# Altium footprint library basic03_inductors.pcblib: 9 footprints
Each footprint in its own frame and in the unit in brackets; x right, y up, seen from the top. Pads: shape width x height; smd on the part's side, far side on the other; paste and mask are expansions set on the pad; w line width, h text height; cw(c..) or ccw(c..) is an arc to the next point about the centre after c.
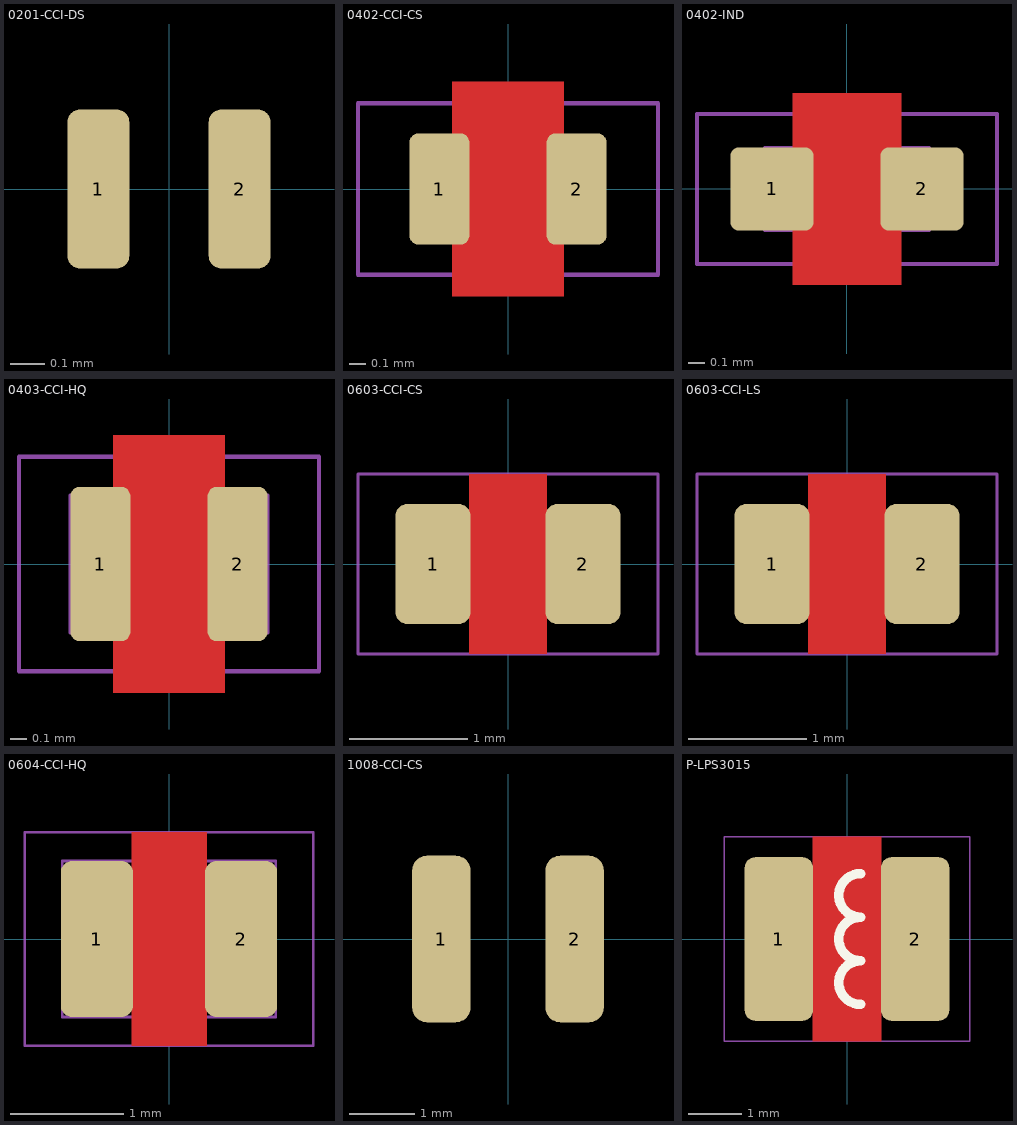
[diagram p0: the footprints below, top view; thin cyan lines are the x and y axes]

## 0201-CCI-DS [mil] "Coilcraft 0201DS"
pads (2):
  rrect40% 7x18 smd paste+0 mask+2: 1(-8,0) 2(8,0)

## 0402-CCI-CS [mil] "Coilcraft 0402CS"
pads (2):
  rrect30% 14x26 smd mask+2: 1(-16,0) 2(16,0)
Top Layer:
  pour cut-out: -13,25 13,25 13,-25 -13,-25
Top Solder:
  rectangle: -8,-20 8,20
  rectangle: -16,-15 16,15
Mechanical 15:
  lines w1: -35,-20 35,-20 35,20 -35,20 -35,-20
3D body: height 20.5, standoff 20, extent -15,-2.5 -10,2.5
3D body: height 20, standoff 10, extent -23,-13 23,13
3D body: height 19, standoff 0, extent -21,-11 -13,11
3D body: height 18, standoff 5, extent -20,-10 20,10
3D body: height 19, standoff 0, extent 13,-11 21,11

## 0402-IND [mil] "Inductor, 0402, General Multilayer"
pads (2):
  rrect20% 20x20 smd mask+2: 1(-18,0) 2(18,0)
Top Layer:
  pour cut-out: -13,23 13,23 13,-23 -13,-23
Top Solder:
  rectangle: -8,-18 8,18
  rectangle: -16,-12 16,12
Mechanical 15:
  lines w1: -36,-18 -36,18 36,18 36,-18 -36,-18
Mechanical 16:
  lines w1: -9.84,-9.84 -9.84,9.84 ; 9.84,-9.84 9.84,9.84 ; -19.68,-9.84 19.68,-9.84 19.68,9.84 -19.68,9.84 -19.68,-9.84
3D body: height 19.9, standoff 19.7, extent 0,-9 9,9
3D body: height 19.8, standoff 0.2, extent -19.68,-9.84 19.68,9.84
3D body: height 20, standoff 0, extent 10,-10 20,10
3D body: height 20, standoff 0, extent -20,-10 -10,10

## 0403-CCI-HQ [mil] "Coilcraft 0403HQ"
pads (2):
  rrect30% 14x36 smd paste+0 mask+2: 1(-16,0) 2(16,0)
Top Layer:
  pour cut-out: -13,30 13,30 13,-30 -13,-30
Top Solder:
  rectangle: -16,-20 16,20
  rectangle: -8,-25 8,25
Mechanical 15:
  lines w1: -35,-25 35,-25 35,25 -35,25 -35,-25
Mechanical 16:
  lines w1: -23,-16 -23,16 23,16 23,-16 -23,-16
3D body: height 28.1, standoff 27.9, extent -15,-2.5 -10,2.5
3D body: height 28, standoff 10, extent -23,-16 23,16
3D body: height 25, standoff 0, extent -21,-14 -13,14
3D body: height 24, standoff 5, extent -20,-13 20,13
3D body: height 25, standoff 0, extent 13,-14 21,14

## 0603-CCI-CS [mil] "Coilcraft 0603CS"
pads (2):
  rrect30% 25x40 smd paste-2 mask+2: 1(-25,0) 2(25,0)
Top Layer:
  pour cut-out: -13,30 13,30 13,-30 -13,-30
Top Solder:
  rectangle: -20,-15 20,15
Mechanical 15:
  lines w1: -50,-30 50,-30 50,30 -50,30 -50,-30
3D body: height 32.5, standoff 32, extent -18,-3 -13,2
3D body: height 32, standoff 20, extent -33,-18 33,18
3D body: height 31, standoff 0, extent 17,-16 31,16
3D body: height 31, standoff 0, extent -31,-16 -17,16
3D body: height 30, standoff 6, extent -30,-15 30,15

## 0603-CCI-LS [mil] "Coilcraft 0603LS"
pads (2):
  rrect30% 25x40 smd paste-2 mask+2: 1(-25,0) 2(25,0)
Top Layer:
  pour cut-out: -13,30 13,30 13,-30 -13,-30
Top Solder:
  rectangle: -20,-15 20,15
Mechanical 15:
  lines w1: -50,-30 50,-30 50,30 -50,30 -50,-30
3D body: height 32.5, standoff 32, extent -18,-3 -13,2
3D body: height 32, standoff 20, extent -33,-18 33,18
3D body: height 31, standoff 0, extent 17,-16 31,16
3D body: height 31, standoff 0, extent -31,-16 -17,16
3D body: height 30, standoff 6, extent -30,-15 30,15

## 0604-CCI-HQ [mil] "Coilcraft 0604HQ"
pads (2):
  rrect30% 25x54 smd paste+0 mask+2: 1(-25,0) 2(25,0)
Top Layer:
  pour cut-out: -13,37 13,37 13,-37 -13,-37
Top Solder:
  rectangle: -20,-15 20,15
Mechanical 15:
  lines w1: -50,-37 -50,37 50,37 50,-37 -50,-37
Mechanical 16:
  lines w1: -37,-27 -37,27 37,27 37,-27 -37,-27
3D body: height 43, standoff 6, extent -33,-23 33,23
3D body: height 45, standoff 0, extent -35,-25 -21,25
3D body: height 47, standoff 20, extent -37,-27 37,27
3D body: height 47.1, standoff 46.9, extent -22,-3 -17,2
3D body: height 45, standoff 0, extent 21,-25 35,25

## 1008-CCI-CS [mil] "Coilcraft 1008CS"
pads (2):
  rrect50% 35x100 smd paste-3 mask+2: 1(-40,0) 2(40,0)
3D body: height 75, standoff 15, extent -51,-47 51,47
3D body: height 76, standoff 10, extent -52,-48 -32,48
3D body: height 80, standoff 60, extent -53,-55 53,55
3D body: height 80.5, standoff 79.5, extent -36,-2.5 -31,2.5
3D body: height 76, standoff 10, extent 32,-48 52,48
3D body: height 10, standoff 0, extent 32,-48 52,48
3D body: height 10, standoff 0, extent -52,-48 -32,48

## P-LPS3015 [mil] "Coilcraft LPS3015 Series"
height 60
pads (2):
  rrect30% 50x120 smd paste-8: 1(-50,0) 2(50,0)
Top Layer:
  pour cut-out: -25,75 -25,-75 25,-75 25,75
Top Overlay:
  lines w7: 10,-48 cw(c10,-32) 10,-16 cw(c10,0) 10,16 cw(c10,32) 10,48
Mechanical 15:
  lines w1: -90,-75 90,-75 90,75 -90,75 -90,-75
3D body: height 61.1, standoff 50, extent -40,-9.98 -20.08,9.98
3D body: height 20, standoff 0, extent 57.5,-30 60.5,35
3D body: height 20, standoff 0, extent -60.5,-32.5 -57.5,32.5
3D body: height 61, standoff 35, extent -52.5,-52.5 52.5,52.5
3D body: height 60, standoff 1, extent -60,-60 60,60